# Altium footprint library PCB库a.PcbLib: 34 footprints (part 2 of 3)
Each footprint in its own frame and in the unit in brackets; x right, y up, seen from the top. Pads: shape width x height; smd on the part's side, far side on the other; paste and mask are expansions set on the pad; w line width, h text height; cw(c..) or ccw(c..) is an arc to the next point about the centre after c.
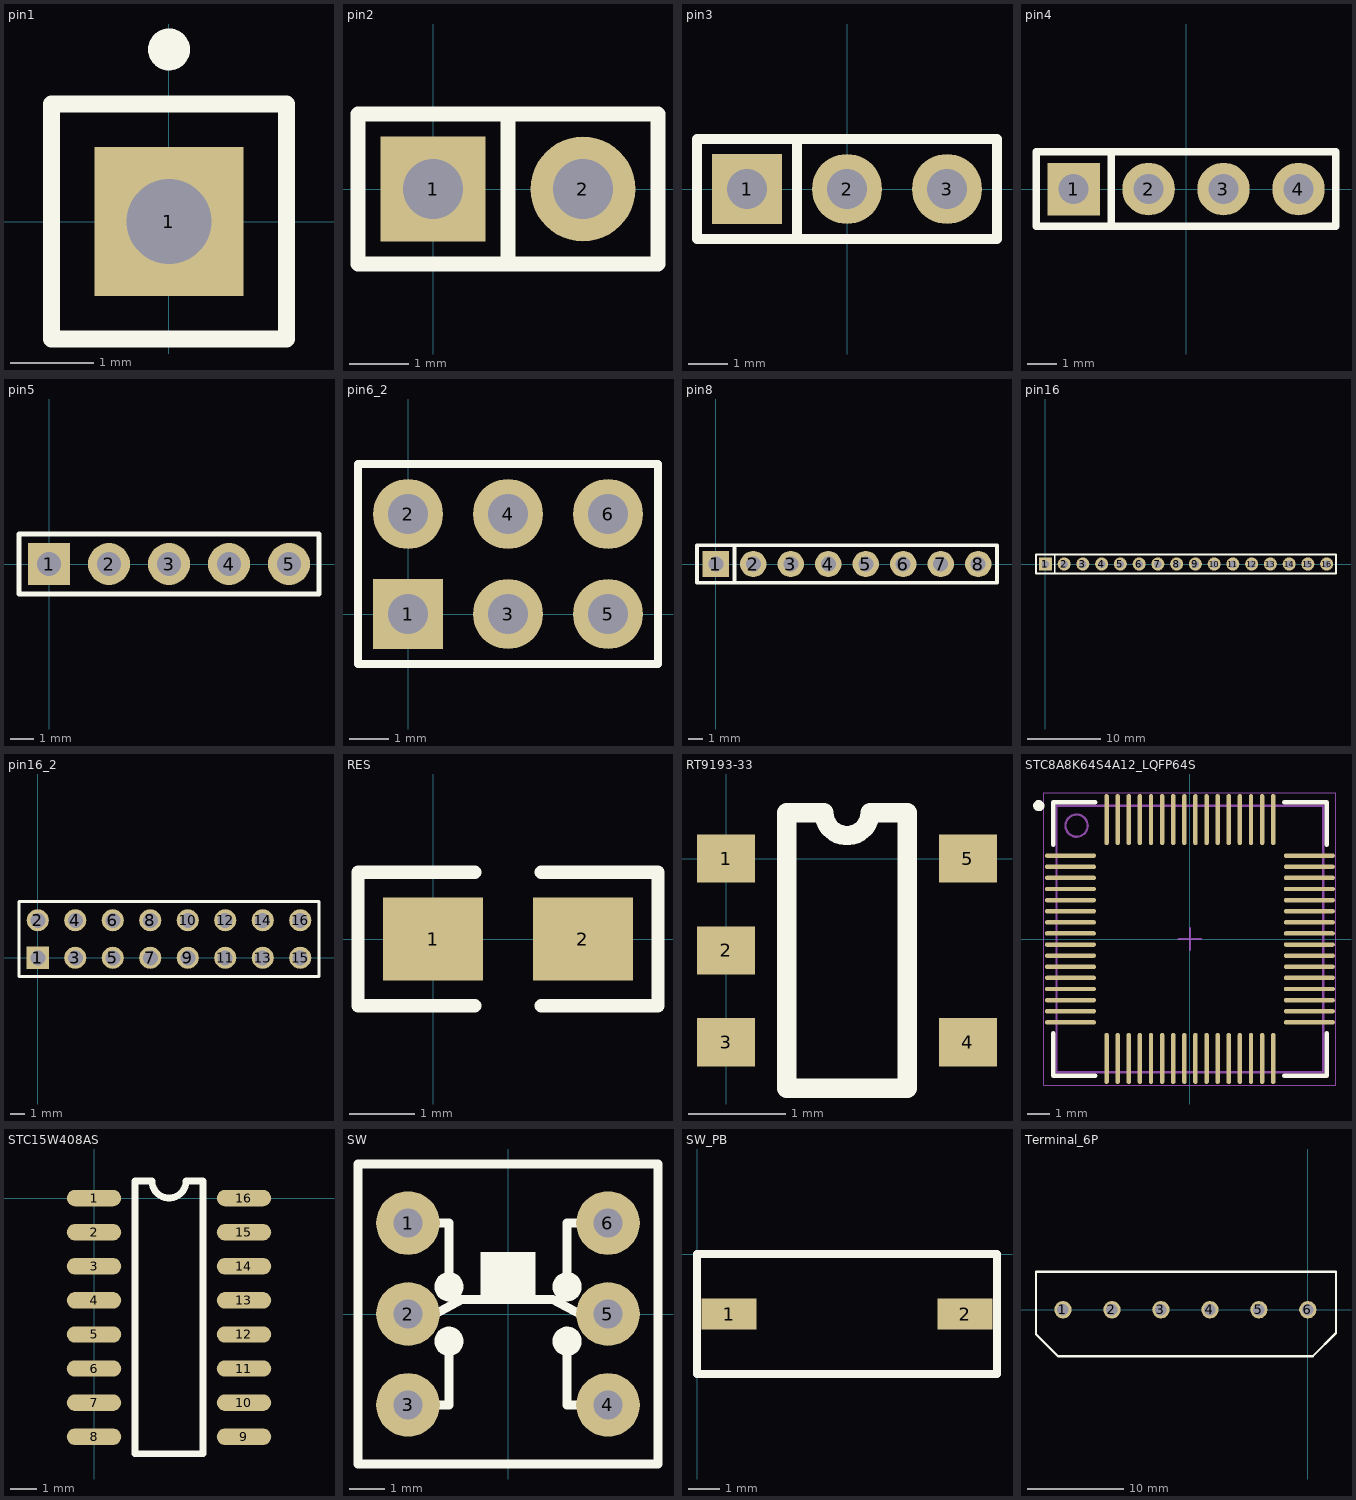
[diagram p1: the footprints below, top view; thin cyan lines are the x and y axes]

## pin1 [mil]
pads (1):
  rect 70x70 hole 40: 1(0,0)
Top Overlay:
  circle w9.84: c0,80.71 r4.92
  lines w7.87: -55.12,-55.12 55.12,-55.12 55.12,55.12 -55.12,55.12 -55.12,-55.12

## pin2 [mil]
pads (2):
  rect 70x70 hole 40: 1(0,0)
  round 70 hole 40: 2(100,0)
Top Overlay:
  lines w10: 50,-50 50,50 ; -50,-50 -50,50 150,50 150,-50 -50,-50

## pin3 [mil]
pads (3):
  rect 70x70 hole 40: 1(-100,0)
  round 70 hole 40: 2(0,0) 3(100,0)
Top Overlay:
  lines w10: -50,-50 -50,50 ; -150,-50 -150,50 150,50 150,-50 -150,-50

## pin4 [mil]
pads (4):
  rect 70x70 hole 40: 1(-150,0)
  round 70 hole 40: 2(-50,0) 3(50,0) 4(150,0)
Top Overlay:
  lines w10: -100,-50 -100,50 ; -200,-50 200,-50 200,50 -200,50 -200,-50

## pin5 [mil]
pads (5):
  rect 70x70 hole 40: 1(0,0)
  round 70 hole 40: 2(100,0) 3(200,0) 4(300,0) 5(400,0)
Top Overlay:
  lines w7.87: -50,-50 -50,50 450,50 450,-50 -50,-50

## pin6_2 [mil]
pads (6):
  rect 70x70 hole 40: 1(0,0)
  round 70 hole 40: 2(0,100) 3(100,0) 4(100,100) 5(200,0) 6(200,100)
Top Overlay:
  lines w7.87: 58.33,-50 250,-50 ; 250,-50 -50,-50 -50,150 250,150 250,-50

## pin8 [mil]
pads (8):
  rect 70x70 hole 40: 1(0,0)
  round 70 hole 40: 2(100,0) 3(200,0) 4(300,0) 5(400,0) 6(500,0) 7(600,0) 8(700,0)
Top Overlay:
  lines w10: 50,-50 50,50 ; -50,-50 -50,50 750,50 750,-50 -50,-50

## pin16 [mil]
pads (16):
  rect 70x70 hole 40: 1(0,0)
  round 70 hole 40: 2(100,0) 3(200,0) 4(300,0) 5(400,0) 6(500,0) 7(600,0) 8(700,0) 9(800,0) 10(900,0) 11(1000,0) 12(1100,0) 13(1200,0) 14(1300,0) 15(1400,0) 16(1500,0)
Top Overlay:
  lines w10: 50,-50 50,50 ; -50,-50 1550,-50 1550,50 -50,50 -50,-50

## pin16_2 [mm]
pads (16):
  rect 1.5x1.5 hole 1.016: 1(0,0)
  round 1.5 hole 1.016: 2(0,2.54) 3(2.54,0) 4(2.54,2.54) 5(5.08,0) 6(5.08,2.54) 7(7.62,0) 8(7.62,2.54) 9(10.16,0) 10(10.16,2.54) 11(12.7,0) 12(12.7,2.54) 13(15.24,0) 14(15.24,2.54) 15(17.78,0) 16(17.78,2.54)
Top Overlay:
  lines w0.2: -1.27,-1.27 -1.27,3.81 19.05,3.81 19.05,-1.27 -1.27,-1.27

## RES [mil]
pads (2):
  rect 60x50 smd: 1(0,0) 2(90,0)
Top Overlay:
  lines w8: 25,-40 -45,-40 -45,40 25,40 ; 65,-40 135,-40 135,40 65,40

## RT9193-33 [mm]
pads (5):
  rect 0.6x0.5 smd: 1(0,0) 2(0,-0.95) 3(0,-1.9) 4(2.5,-1.9) 5(2.5,0)
Top Overlay:
  lines w0.2: 0.627,-2.375 0.627,0.475 1.012,0.475 ccw(c1.25,0.475) 1.488,0.475 1.873,0.475 1.873,-2.375 0.627,-2.375

## STC8A8K64S4A12_LQFP64S [mm] "STC8A8K64S4A12_LQFP64S"
height 1.6
pads (64):
  oval 2.3x0.2 smd: 1(-5.375,3.75) 2(-5.375,3.25) 3(-5.375,2.75) 4(-5.375,2.25) 5(-5.375,1.75) 6(-5.375,1.25) 7(-5.375,0.75) 8(-5.375,0.25) 9(-5.375,-0.25) 10(-5.375,-0.75) 11(-5.375,-1.25) 12(-5.375,-1.75) 13(-5.375,-2.25) 14(-5.375,-2.75) 15(-5.375,-3.25) 16(-5.375,-3.75) 33(5.375,-3.75) 34(5.375,-3.25) 35(5.375,-2.75) 36(5.375,-2.25) 37(5.375,-1.75) 38(5.375,-1.25) 39(5.375,-0.75) 40(5.375,-0.25) 41(5.375,0.25) 42(5.375,0.75) 43(5.375,1.25) 44(5.375,1.75) 45(5.375,2.25) 46(5.375,2.75) 47(5.375,3.25) 48(5.375,3.75)
  oval 0.2x2.3 smd: 17(-3.75,-5.375) 18(-3.25,-5.375) 19(-2.75,-5.375) 20(-2.25,-5.375) 21(-1.75,-5.375) 22(-1.25,-5.375) 23(-0.75,-5.375) 24(-0.25,-5.375) 25(0.25,-5.375) 26(0.75,-5.375) 27(1.25,-5.375) 28(1.75,-5.375) 29(2.25,-5.375) 30(2.75,-5.375) 31(3.25,-5.375) 32(3.75,-5.375) 49(3.75,5.375) 50(3.25,5.375) 51(2.75,5.375) 52(2.25,5.375) 53(1.75,5.375) 54(1.25,5.375) 55(0.75,5.375) 56(0.25,5.375) 57(-0.25,5.375) 58(-0.75,5.375) 59(-1.25,5.375) 60(-1.75,5.375) 61(-2.25,5.375) 62(-2.75,5.375) 63(-3.25,5.375) 64(-3.75,5.375)
Top Overlay:
  circle w0.25: c-6.8,6 r0.125
  lines w0.2: -6.15,-4.25 -6.15,-6.15 -4.25,-6.15 ; -6.15,4.25 -6.15,6.15 -4.25,6.15 ; 4.25,-6.15 6.15,-6.15 6.15,-4.25 ; 4.25,6.15 6.15,6.15 6.15,4.25
Mechanical 13:
  circle w0.1: c-5.1,5.1 r0.5
  lines w0.1: -6,-6 6,-6 6,6 -6,6 -6,-6
Mechanical 15:
  lines w0.05: -6.575,-6.575 6.575,-6.575 6.575,6.575 -6.575,6.575 -6.575,-6.575
  lines w0.1: -0.5,0 0.5,0 ; 0,-0.5 0,0.5
3D body: height 1.6, standoff 0.15, extent -6,-6 6,6

## STC15W408AS [mil]
pads (16):
  oval 80x24 smd: 1(0,0) 2(0,-50) 3(0,-100) 4(0,-150) 5(0,-200) 6(0,-250) 7(0,-300) 8(0,-350) 9(220,-350) 10(220,-300) 11(220,-250) 12(220,-200) 13(220,-150) 14(220,-100) 15(220,-50) 16(220,0)
Top Overlay:
  lines w10: 60,-375 60,25 85,25 ccw(c110,25) 135,25 160,25 160,-375 60,-375

## SW [mil]
pads (6):
  round 70 hole 32: 1(-110,100) 2(-110,0) 3(-110,-100) 4(110,-100) 5(110,0) 6(110,100)
Top Overlay:
  circle w18: c-65,-30 r7.07
  circle w18: c65,-30 r7.07
  circle w18: c65,30 r7.07
  circle w18: c-65,30 r7.07
  rectangle: -30,16 30,68
  lines w10: -110,-100 -65,-100 -65,-40 ; -110,0 -80,0 -51,16 49,16 81,-1 109,-1 110,0 ; -110,100 -65,100 -65,30 ; 65,-40 65,-100 110,-100 ; 65,40 65,100 110,100 ; -165,-165 165,-165 165,165 -165,165 -165,-165

## SW_PB [mm]
pads (2):
  rect 1.75x1 smd: 1(1.016,-1.905) 2(8.509,-1.905)
Top Overlay:
  lines w0.254: 0,-3.81 0,0 9.525,0 9.525,-3.81 0,-3.81

## Terminal_6P [mm]
pads (6):
  round 1.8 hole 1.2: 1(-25.4,0) 2(-20.32,0) 3(-15.24,0) 4(-10.16,0) 5(-5.08,0) 6(0,0)
Top Overlay:
  lines w0.254: -28.194,-2.54 -28.194,-1.397 -28.194,-0.476 -28.194,0.349 -28.194,1.27 -28.194,3.937 2.921,3.937 2.921,1.524 2.921,-2.413 0.508,-4.826 -25.908,-4.826 -28.194,-2.54